# Altium integrated library Analog Devices Data Converters Analog-to-Digital Converters.IntLib: 2404 symbols (part 108 of 346)
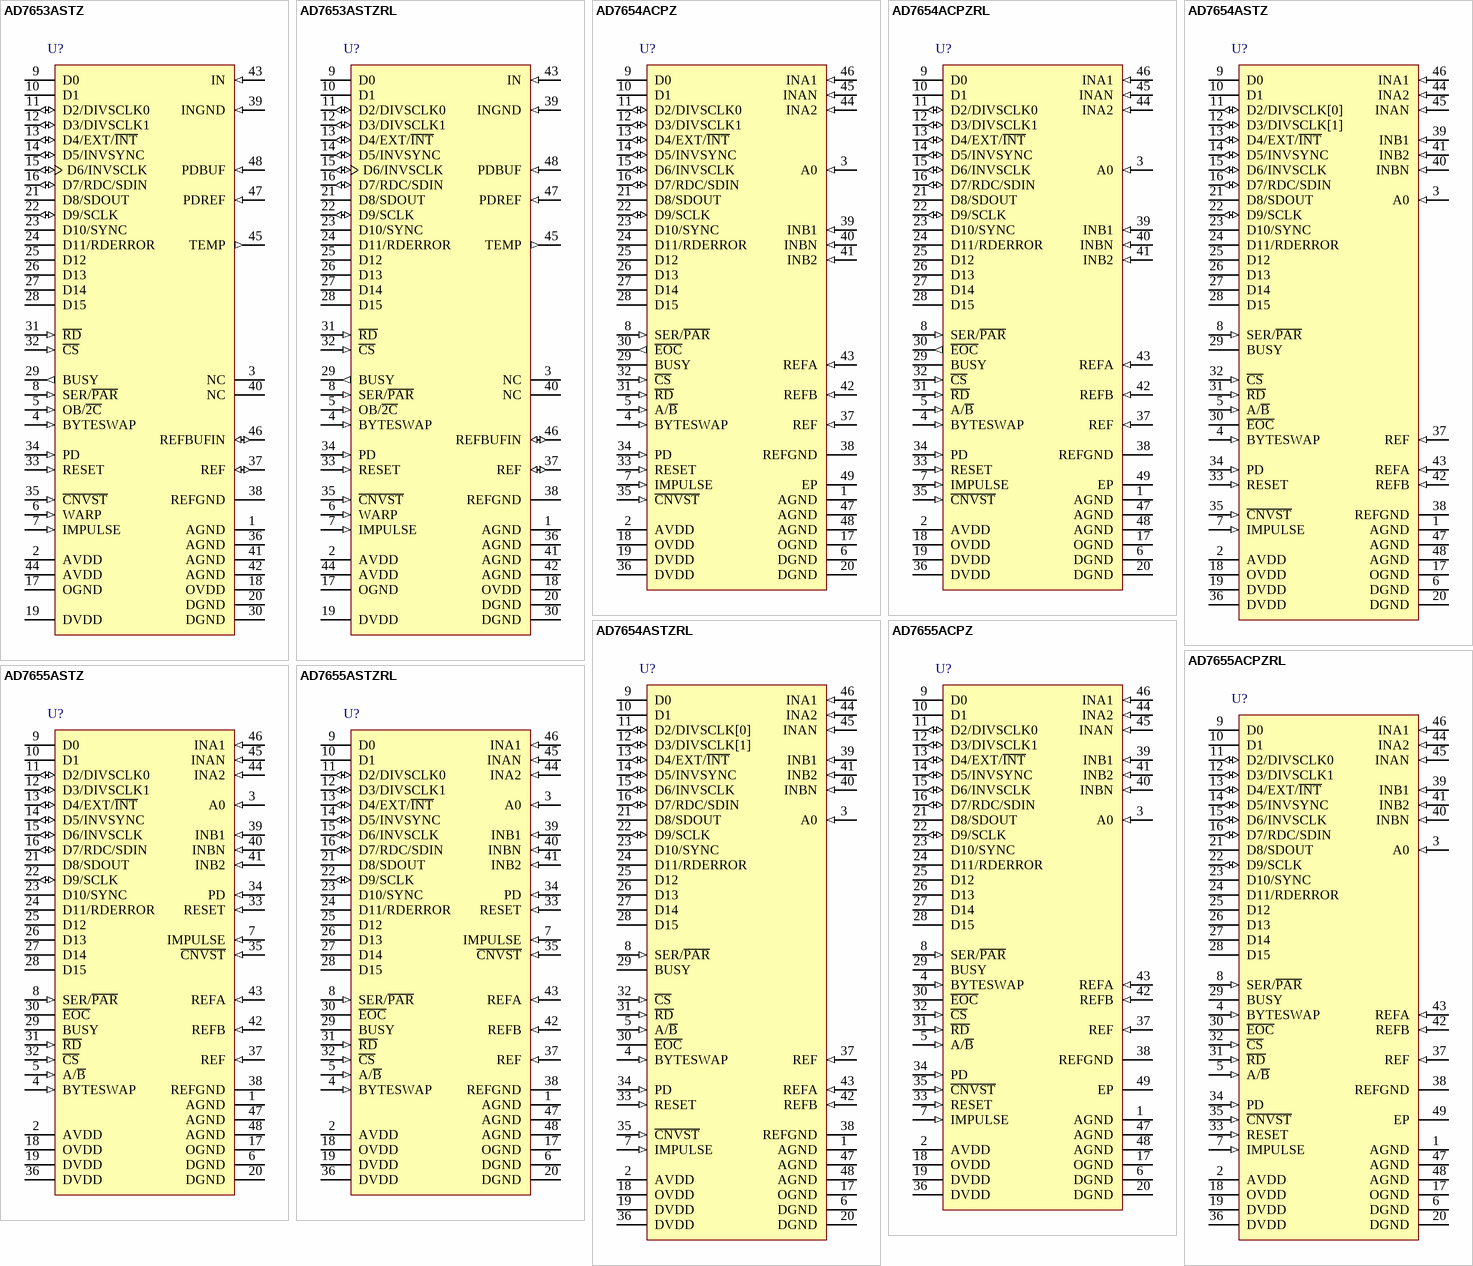
[diagram p315: symbols AD7653ASTZ to AD7655ASTZRL]

## AD7655ACPZ
designator U?
Quad 16-Bit PulSAR Analog-to-Digital Converter with Parallel, Serial, SPI Interface, 1MSPS, -40 to +85 degC, CP-48-1, Pb-Free, Tray; Generic Part Number: AD7655; Manufacturer: Analog Devices; PartNumber: AD7655ACPZ; Resolution (Bits): 16; Channels: 4; Throughput Rate (SPS): 1M; Interface: Par, Ser, SPI; DatasheetVersion: Rev.B; PackageVersion: Jan-2005; PackageReference: CP-48-1; PackageDescription: 48-Lead Lead Frame Chip Scale Package [LFCSP_VQ] 7 x 7 mm Body, Very Thin Quad; Supplier 1: Digi-Key; Supplier Part Number 1: AD7655ACPZ-ND; Supplier 2: Farnell; Supplier Part Number 2: 2312804; Supplier 3: Newark; Supplier Part Number 3: 59K5137; Supplier 4: Mouser; Supplier Part Number 4: 584-AD7655ACPZ; RoHS: Y; Packing: Tray; Mounting Technology: Surface Mount; Code_JEDEC: MO-220-VKKD-2; ComponentLink1Description: Manufacturer URL; ComponentLink1URL: http://www.analog.com/en/index.html; ComponentLink2Description: Datasheet; ComponentLink2URL: http://www.analog.com/static/imported-files/data_sheets/AD7655.pdf; ComponentLink3Description: Package Specification; ComponentLink3URL: http://www.analog.com/static/imported-files/packages/PKG_PDF/LFCSP(CP)/CP-48/CP_48_1.pdf; ComponentLink4Description: Product URL; ComponentLink4URL: http://www.analog.com/en/analog-to-digital-converters/ad-converters/ad7655/products/product.html
footprint CP-48-1_N (QFN, 48-Leads, Body 7x7mm, Pitch 0.5mm, Thermal Pad 5.1x5.1mm, IPC Medium Density)
footprint CP-48-1_L (QFN, 48-Leads, Body 7x7mm, Pitch 0.5mm, Thermal Pad 5.1x5.1mm, IPC High Density)
footprint CP-48-1_M (QFN, 48-Leads, Body 7x7mm, Pitch 0.5mm, Thermal Pad 5.1x5.1mm, IPC Low Density)
pins: 1 AGND (power) "Analog Power Ground Pin.", 2 AVDD (power) "Input Analog Power Pin. Nominally 5 V.", 3 A0 (in) "Multiplexer Select. When LOW, the analog inputs INA1 and INB1 are sampled simultaneously, then converted. When HIGH, the analog inputs INA2 and INB2 are sampled simultaneously, then converted.", 4 BYTESWAP (in) "Parallel Mode Selection (8 Bit, 16 Bit). When LOW, the LSB is output on D[7:0] and the MSB is output on D[15:8]. When HIGH, the LSB is output on D[15:8] and the MSB is output on D[7:0].", 5 A/~{B} (in) "Data Channel Selection. In parallel mode, when LOW, the data from Channel B is read. When HIGH,the data from Channel A is read. In serial mode, when HIGH, Channel A is output first followed by Channel B. When LOW, Channel B (See Datasheet)", 6 DGND (power) "Digital Power Ground.", 7 IMPULSE (in) "Mode Selection. When HIGH, this input selects a reduced power mode. In this mode, the powerdissipation is approximately proportional to the sampling rate.", 8 SER/~{PAR} (in) "Serial/Parallel Selection Input. When LOW, the parallel port is selected; when HIGH, the serial interface mode is selected and some bits of the DATA bus are used as a serial port.", 9 D0 (hiz) "Bit 0 of the Parallel Port Data Output Bus. When SER/P\A\R\ is HIGH, these outputs are in high impedance.", 10 D1 (hiz) "Bit 1 of the Parallel Port Data Output Bus. When SER/P\A\R\ is HIGH, these outputs are in high impedance.", 11 D2/DIVSCLK0 (io) "When SER/P\A\R\ is LOW, these outputs are used as Bit 2 of the Parallel Port Data Output Bus.When SER/P\A\R\ is HIGH, EXT/I\N\T\ is LOW, and RDC/SDIN is LOW, which is the serial master read after convert mode. These inputs, (See Datasheet)", 12 D3/DIVSCLK1 (io) "When SER/P\A\R\ is LOW, these outputs are used as Bit 3 of the Parallel Port Data Output Bus.When SER/P\A\R\ is HIGH, EXT/\I\N\T\ is LOW, and RDC/SDIN is LOW, which is the serial master read after convert mode. These inputs, (See Datasheet)", 13 D4/EXT/~{INT} (io) "When SER/P\A\R\ is LOW, this output is used as Bit 4 of the Parallel Port Data Output Bus.When SER/P\A\R\ is HIGH, this input, part of the serial port, is used as a digital select input for choosing the internal or an (See Datasheet)", 14 D5/INVSYNC (io) "When SER/P\A\R\ is LOW, this output is used as Bit 5 of the Parallel Port Data Output Bus.When SER/P\A\R\ is HIGH, this input, part of the serial port, is used to select the active state of the SYNC signal in Master modes. (See Datasheet)", 15 D6/INVSCLK (io) "When SER/P\A\R\ is LOW, this output is used as Bit 6 of the parallel port data output bus.When SER/P\A\R\ is HIGH, this input, part of the serial port, is used to invert the SCLK signal. It is active in both master and slave (See Datasheet)", 16 D7/RDC/SDIN (io) "When SER/P\A\R\ is LOW, this output is used as Bit 7 of the Parallel Port Data Output Bus.When SER/P\A\R\ is HIGH, this input, part of the serial port, is used as either an external data input or a read mode selection input, (See Datasheet)", 17 OGND (power) "Input/Output Interface Digital Power Ground.", 18 OVDD (power) "Input/Output Interface Digital Power. Nominally at the same supply as the supply of the host interface (5 V or 3 V).", 19 DVDD (power) "Digital Power. Nominally at 5 V.", 20 DGND (power) "Digital Power Ground.", 21 D8/SDOUT (hiz) "When SER/P\A\R\ is LOW, this output is used as Bit 8 of the Parallel Port Data Output Bus.When SER/P\A\R\ is HIGH, this output, part of the serial port, is used as a serial data output synchronized to SCLK. Conversion (See Datasheet)", 22 D9/SCLK (io) "When SER/P\A\R\ is LOW, this output is used as Bit 9 of the Parallel Port Data Output Bus.When SER/P\A\R\ is HIGH, this pin, part of the serial port, is used as a serial data clock input or output,depends upon the logic (See Datasheet)", 23 D10/SYNC (hiz) "When SER/P\A\R\ is LOW, this output is used as Bit 10 of the Parallel Port Data Output Bus.When SER/P\A\R\ is HIGH, this output, part of the serial port, is used as a digital output frame synchronization for use with the (See Datasheet)", 24 D11/RDERROR (hiz) "When SER/P\A\R\ is LOW, this output is used as Bit 11 of the Parallel Port Data Output Bus.When SER/P\A\R\ is HIGH and EXT/I\N\T\ is HIGH, this output, part of the serial port, is used as an incomplete read error flag. In (See Datasheet)", 25 D12 (hiz) "Bit 12 of the parallel port data output bus. When SER/P\A\R\ is HIGH, these outputs are in high impedance.", 26 D13 (hiz) "Bit 13 of the parallel port data output bus. When SER/P\A\R\ is HIGH, these outputs are in high impedance.", 27 D14 (hiz) "Bit 14 of the parallel port data output bus. When SER/P\A\R\ is HIGH, these outputs are in high impedance.", 28 D15 (hiz) "Bit 15 of the parallel port data output bus. When SER/P\A\R\ is HIGH, these outputs are in high impedance.", 29 BUSY (hiz) "Busy Output. Transitions HIGH when a conversion is started and remains HIGH until the two conversions are complete and the data is latched into the on-chip shift register. The falling edge of BUSY can be used as a data ready (See Datasheet)", 30 ~{EOC} (hiz) "End of Convert Output. Goes LOW at each channel conversion.", 31 ~{RD} (in) "Read Data. When C\S\ and R\D\ are both LOW, the interface parallel or serial output bus is enabled.", 32 ~{CS} (in) "Chip Select. When C\S\ and R\D\ are both LOW, the interface parallel or serial output bus is enabled. C\S\ is also used to gate the external serial clock.", 33 RESET (in) "Reset Input. When set to a logic HIGH, reset the AD7655. Current conversion, if any, is aborted. If not used, this pin could be tied to DGND.", 34 PD (in) "Power-Down Input. When set to a logic HIGH, power consumption is reduced and conversions are inhibited after the current conversion is completed.", 35 ~{CNVST} (in) "Start Conversion. A falling edge on C\N\V\S\T\ puts the internal sample-and-hold into the hold state and initiates a conversion. In impulse mode (IMPULSE = HIGH), if C\N\V\S\T is held LOW when the acquisition phase (t8) is (See Datasheet)", 36 DVDD (power) "Digital Power. Nominally at 5 V.", 37 REF (in) "This input pin is used to provide a reference to the converter.", 38 REFGND (power) "Reference Input Analog Ground.", 39 INB1 (in) "Channel B Analog Inputs.", 40 INBN (in) "Analog Inputs Ground Senses. Allow to sense each channel ground independently.", 41 INB2 (in) "Channel B Analog Inputs.", 42 REFB (in) "These inputs are the references applied to Channel A and Channel B, respectively.", 43 REFA (in) "These inputs are the references applied to Channel A and Channel B, respectively.", 44 INA2 (in) "Channel A Analog Inputs.", 45 INAN (in) "Analog Inputs Ground Senses. Allow to sense each channel ground independently.", 46 INA1 (in) "Channel A Analog Inputs.", 47 AGND (power) "Analog Power Ground Pin.", 48 AGND (power) "Analog Power Ground Pin.", 49 EP (power) "PADDLE CONNECTED TO GND."